# Altium footprint library card.PcbLib: 15 footprints
Each footprint in its own frame and in the unit in brackets; x right, y up, seen from the top. Pads: shape width x height; smd on the part's side, far side on the other; paste and mask are expansions set on the pad; w line width, h text height; cw(c..) or ccw(c..) is an arc to the next point about the centre after c.
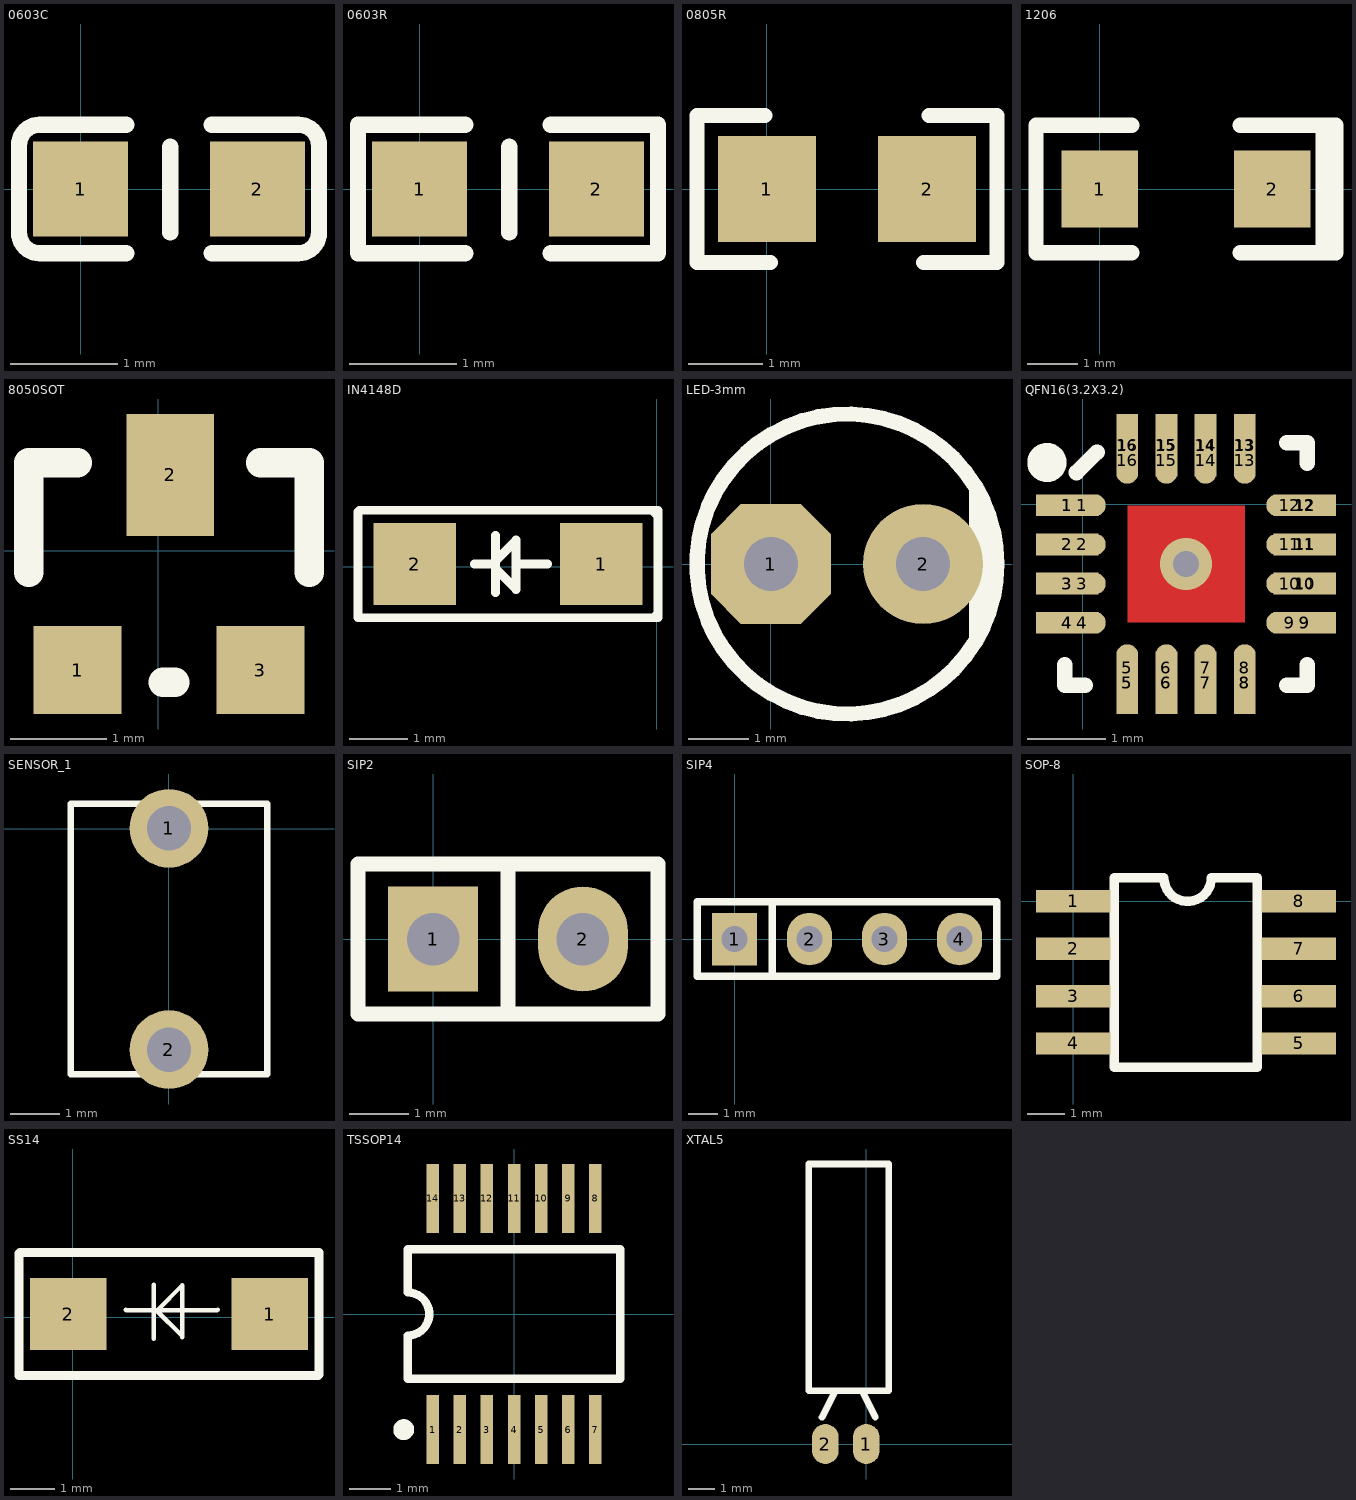
[diagram p0: the footprints below, top view; thin cyan lines are the x and y axes]

## 0603C [mil]
height 39.37
pads (2):
  rect 35x35 smd: 1(0,0) 2(65,0)
Top Overlay:
  lines w6: 16.75,-23.62 -15,-23.62 cw(c-15,-16) -22.62,-16 -22.62,16 cw(c-15,16) -15,23.62 16.75,23.62 ; 33,-16 33,15.5 ; 48.25,-23.62 80,-23.62 ccw(c80,-16) 87.62,-16 87.62,16 ccw(c80,16) 80,23.62 48.25,23.62

## 0603R [mil]
height 39.37
pads (2):
  rect 35x35 smd: 1(0,0) 2(65,0)
Top Overlay:
  lines w6: 16.75,-23.62 -22.62,-23.62 -22.62,23.62 16.75,23.62 ; 33,-16 33,15.5 ; 48.24,-23.62 87.61,-23.62 87.61,23.62 48.24,23.62

## 0805R [mil]
height 39.37
pads (2):
  rect 52x56 smd: 1(0,0) 2(85,0)
Top Overlay:
  lines w8: -1,39 -37,39 -37,-39 2,-39 ; 83,-39 122,-39 122,39 86,39

## 1206 [mil]
height 39.37
pads (2):
  rect 60x60 smd: 1(0,0) 2(135,0)
Top Overlay:
  lines w12: 25,-50 -50,-50 -50,50 25,50 ; 110,-50 185,-50 185,50 110,50 ; 175,-50 175,50

## 8050SOT [mil]
height 39.37
pads (3):
  rect 36x36 smd: 1(-33,-49) 3(42,-49)
  rect 36x50 smd: 2(5,31)
Top Overlay:
  lines w12: -53,-9 -53,36 -33,36 ; 2,-54 7,-54 ; 42,36 62,36 62,-9

## IN4148D [mm]
height 1
pads (2):
  rect 1.4x1.4 smd: 1(-0.94,0.051) 2(-4.115,0.051)
Top Overlay:
  lines w0.152: -4.928,0.965 -0.076,0.965 ; -4.547,0.965 -5.055,0.965 -5.08,0.94 -5.08,0.813 -5.08,-0.864 -0.051,-0.864 0.025,-0.787 0.025,0.864 ; -3.099,0.051 -2.743,0.051 ; -2.743,-0.432 -2.743,0.533 ; -2.743,-0.051 -2.718,-0.051 -2.388,-0.381 -2.388,0.457 -2.743,0.102 -2.743,0.025 ; -2.388,0.051 -1.854,0.051 ; -0.305,-0.864 0.025,-0.864 0.025,-0.508 ; -0.076,0.965 0.025,0.864 ; -0.076,0.965 0.025,0.965 0.025,0.864

## LED-3mm [mm]
height 1
pads (2):
  oct 2x2 hole 0.9: 1(0,0)
  round 2 hole 0.9: 2(2.54,0)
Top Overlay:
  circle w0.254: c1.27,0 r2.5
  lines w0.254: 3.429,-1.27 3.429,1.27 ; 3.556,-0.635 3.556,0.762

## QFN16(3.2X3.2) [mm]
height 1
pads (48):
  rect 0.28x0.28 smd: 1(-0.194,-0.012) 2(-0.194,-0.512) 3(-0.194,-1.012) 4(-0.194,-1.512) 5(0.571,-2.277) 6(1.071,-2.277) 7(1.571,-2.277) 8(2.071,-2.277) 9(2.836,-1.512) 10(2.836,-1.012) 11(2.836,-0.512) 12(2.836,-0.012) 13(2.071,0.753) 14(1.571,0.753) 15(1.071,0.753) 16(0.571,0.753)
  rect 0.8x0.28 smd: 1(-0.194,-0.012) 2(-0.194,-0.512) 3(-0.194,-1.012) 4(-0.194,-1.512) 9(2.836,-1.512) 10(2.836,-1.012) 11(2.836,-0.512) 12(2.836,-0.012)
  oval 0.6x0.28 smd: 1(-0.004,-0.012) 2(-0.004,-0.512) 3(-0.004,-1.012) 4(-0.004,-1.512) 9(2.646,-1.512) 10(2.646,-1.012) 11(2.646,-0.512) 12(2.646,-0.012)
  rect 0.28x0.8 smd: 5(0.571,-2.277) 6(1.071,-2.277) 7(1.571,-2.277) 8(2.071,-2.277) 13(2.071,0.753) 14(1.571,0.753) 15(1.071,0.753) 16(0.571,0.753)
  oval 0.28x0.6 smd: 5(0.571,-2.087) 6(1.071,-2.087) 7(1.571,-2.087) 8(2.071,-2.087) 13(2.071,0.563) 14(1.571,0.563) 15(1.071,0.563) 16(0.571,0.563)
via 1.321,-0.762 diameter 0.66 hole 0.33
Top Layer:
  region: 0.573,-0.012 0.573,-1.512 2.073,-1.512 2.073,-0.012
Top Overlay:
  circle w0.25: c-0.455,0.533 r0.125
  lines w0.2: -0.229,-2.052 -0.229,-2.312 0.031,-2.312 ; -0.076,0.406 0.184,0.666 ; 2.611,-2.312 2.871,-2.312 2.871,-2.052 ; 2.611,0.788 2.871,0.788 2.871,0.528

## SENSOR_1 [mm]
height 1
pads (2):
  round 1.6 hole 0.9: 1(0,0.004) 2(0,-4.496)
Top Overlay:
  lines w0.127: -2,-4.996 2,-4.996 2,0.504 -2,0.504 -2,-4.996

## SIP2 [mil]
height 39.37
pads (2):
  rect 60x70 hole 35: 1(0,0)
  oval 60x70 hole 35: 2(100,0)
Top Overlay:
  lines w10: 50,-50 50,50 ; -50,-50 -50,50 150,50 150,-50 -50,-50

## SIP4 [mil]
height 39.37
pads (4):
  rect 60x70 hole 35: 1(0,0)
  oval 60x70 hole 35: 2(100,0) 3(200,0) 4(300,0)
Top Overlay:
  lines w10: 50,-50 50,50 ; -50,-50 350,-50 350,50 -50,50 -50,-50

## SOP-8 [mm]
height 1
pads (8):
  rect 2x0.6 smd: 1(0,0) 2(0,-1.27) 3(0,-2.54) 4(0,-3.81) 5(6.048,-3.81) 6(6.048,-2.54) 7(6.048,-1.27) 8(6.048,0)
Top Overlay:
  lines w0.254: 1.098,-4.445 4.938,-4.445 4.938,0.635 3.703,0.635 cw(c3.068,0.635) 2.433,0.635 1.098,0.635 1.098,-4.445

## SS14 [mm]
height 1
pads (2):
  rect 1.7x1.6 smd: 1(4.4,0.075) 2(-0.1,0.075)
Top Overlay:
  lines w0.1: 1.185,0.175 1.198,0.162 1.866,0.162 ; 1.81,-0.475 1.81,0.725 ; 2.45,-0.448 2.45,-0.422 ; 3.235,0.175 3.222,0.162 2.679,0.162 1.79,0.162 1.866,0.162 ; 1.866,0.162 1.891,0.162 2.45,0.721 2.45,-0.422 ; 1.866,0.162 2.45,-0.422
  lines w0.2: -1.2,-0.725 -1.2,1.425 ; -1.2,1.2 -1.2,-1.3 0.1,-1.3 ; -0.975,-1.3 5.3,-1.3 ; -0.95,1.45 0.075,1.45 ; -0.3,-1.3 4.7,-1.3 ; -0.275,1.45 2.225,1.45 4.725,1.45 5.325,1.45 5.5,1.45 5.5,0.925 ; 5.5,-1.275 5.5,1.2
  lines w0.203: -1.2,1.425 -1.175,1.45 -0.175,1.45 ; 4.8,-1.3 5.475,-1.3 5.5,-1.275

## TSSOP14 [mm] "Shrink Small Outline; 14 Leads; Body Width 4.4 mm; Pitch 0.65 mm"
height 1.1
pads (14):
  rect 0.3x1.65 smd: 1(-1.95,-2.775) 2(-1.3,-2.775) 3(-0.65,-2.775) 4(0,-2.775) 5(0.65,-2.775) 6(1.3,-2.775) 7(1.95,-2.775) 8(1.95,2.775) 9(1.3,2.775) 10(0.65,2.775) 11(0,2.775) 12(-0.65,2.775) 13(-1.3,2.775) 14(-1.95,2.775)
Top Overlay:
  circle w0.25: c-2.65,-2.775 r0.125
  lines w0.2: -2.55,-1.55 2.55,-1.55 2.55,1.55 -2.55,1.55 -2.55,0.517 cw(c-2.55,0) -2.55,-0.517 -2.55,-1.55

## XTAL5 [mm]
height 1
pads (2):
  oval 1x1.5 smd: 1(0,0) 2(-1.53,0)
Top Overlay:
  lines w0.25: -1.66,1 -1.16,2 ; -0.16,2 0.34,1 ; -2.16,2 0.84,2 0.84,10.5 -2.16,10.5 -2.16,2